# Altium footprint library PcbLib1.PcbLib: 41 footprints (part 2 of 3)
Each footprint in its own frame and in the unit in brackets; x right, y up, seen from the top. Pads: shape width x height; smd on the part's side, far side on the other; paste and mask are expansions set on the pad; w line width, h text height; cw(c..) or ccw(c..) is an arc to the next point about the centre after c.
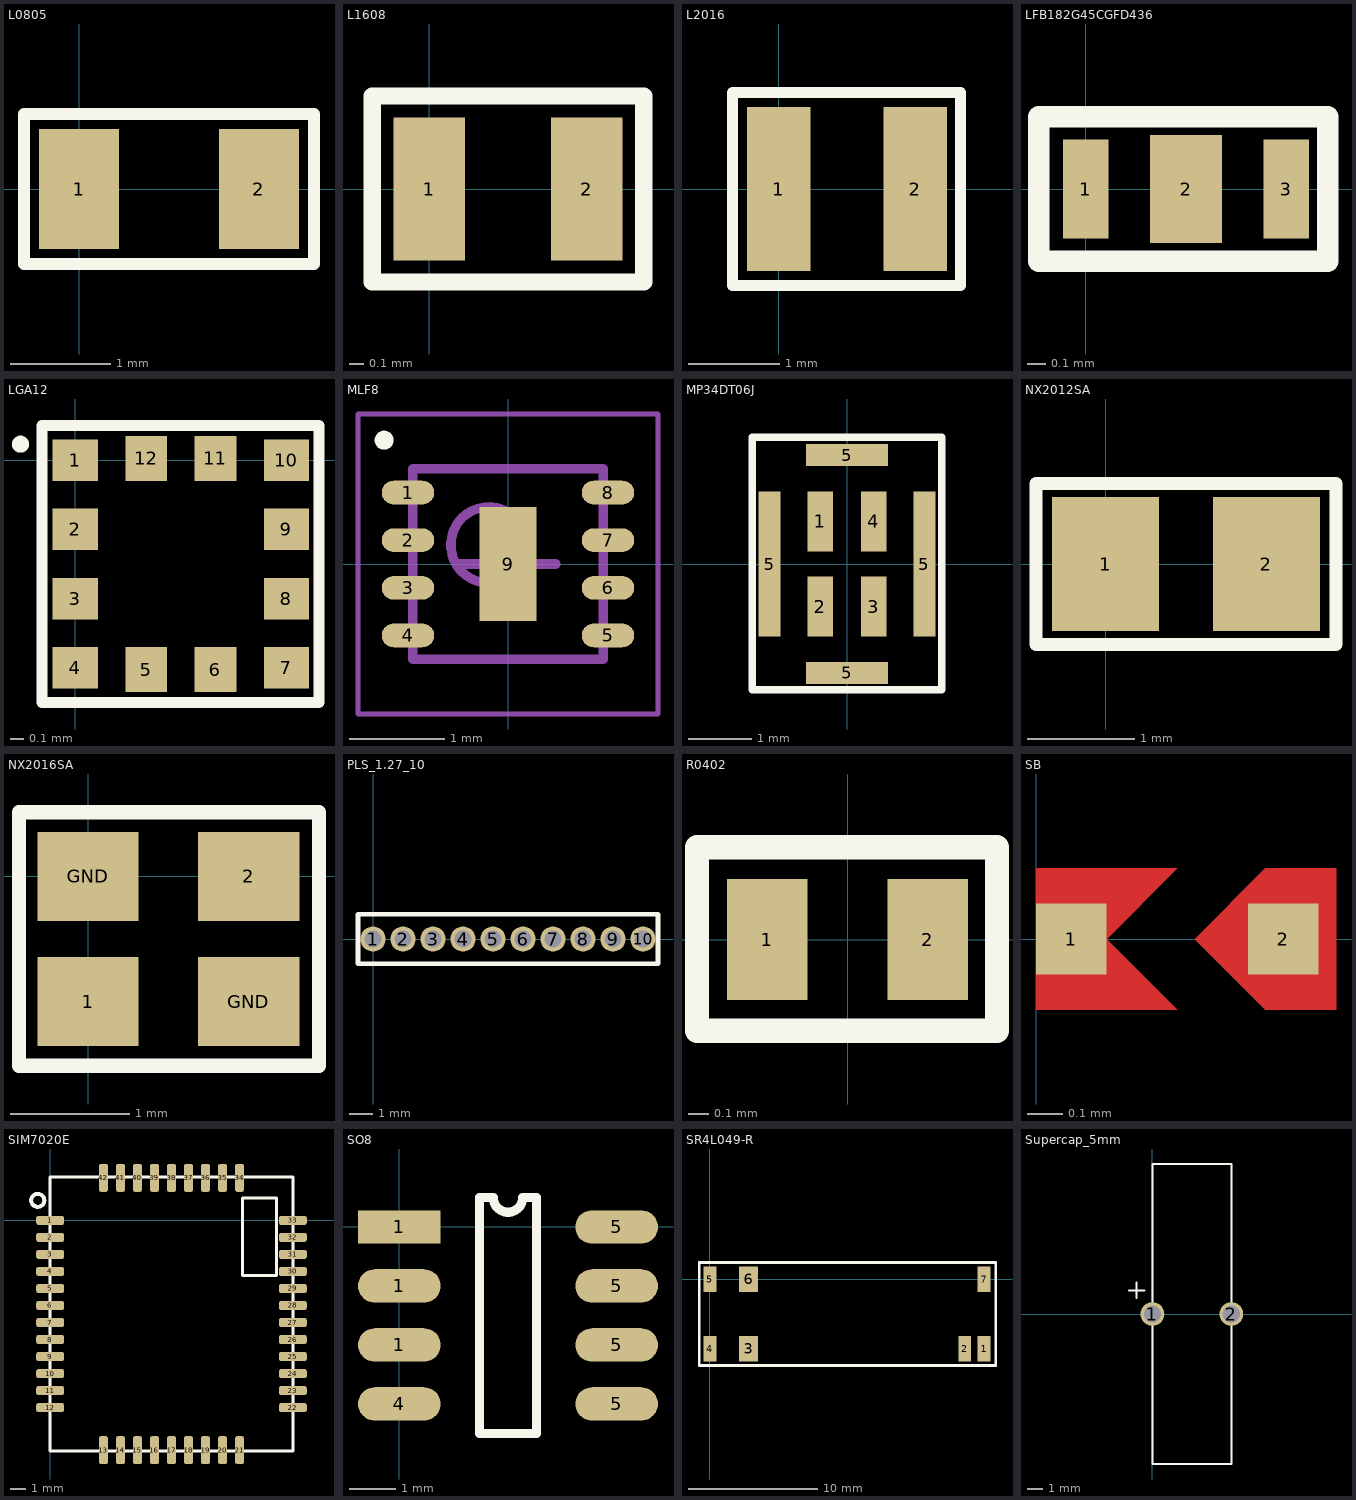
[diagram p1: the footprints below, top view; thin cyan lines are the x and y axes]

## L0805 [mm]
pads (2):
  rect 0.8x1.2 smd: 1(0,0) 2(1.8,0)
Top Overlay:
  lines w0.12: -0.55,-0.75 -0.55,0.75 2.35,0.75 2.35,-0.75 -0.55,-0.75

## L1608 [mm]
pads (2):
  rect 0.5x1 smd: 1(0,0) 2(1.1,0)
Top Overlay:
  lines w0.12: -0.4,-0.65 -0.4,0.65 1.5,0.65 1.5,-0.65 -0.4,-0.65

## L2016 [mm]
pads (2):
  rect 0.7x1.8 smd: 1(0,0) 2(1.5,0)
Top Overlay:
  lines w0.12: -0.51,-1.06 2,-1.06 2,1.06 -0.51,1.06 -0.51,-1.06

## LFB182G45CGFD436 [mm]
pads (3):
  rect 0.25x0.55 smd: 1(0,0) 3(1.11,0)
  rect 0.4x0.6 smd: 2(0.555,0)
Top Overlay:
  lines w0.12: -0.26,-0.4 -0.26,0.4 1.34,0.4 1.34,-0.4 -0.26,-0.4

## LGA12 [mm]
pads (12):
  rect 0.325x0.3 smd: 1(0,0) 2(0,-0.5) 3(0,-1) 4(0,-1.5) 7(1.525,-1.5) 8(1.525,-1) 9(1.525,-0.5) 10(1.525,0)
  rect 0.3x0.325 smd: 5(0.513,-1.512) 6(1.012,-1.512) 11(1.012,0.012) 12(0.513,0.012)
Top Overlay:
  circle w0.1: c-0.395,0.115 r0.011
  lines w0.08: -0.24,-1.75 -0.24,0.25 1.76,0.25 1.76,-1.75 -0.24,-1.75

## MLF8 [mm]
height 0.85
pads (9):
  oval 0.55x0.25 smd: 1(-1.05,0.75) 2(-1.05,0.25) 3(-1.05,-0.25) 4(-1.05,-0.75) 5(1.05,-0.75) 6(1.05,-0.25) 7(1.05,0.25) 8(1.05,0.75)
  rect 0.6x1.2 smd: 9(0,0)
Top Overlay:
  circle w0.1: c-1.3,1.3 r0.05
Mechanical 13:
  circle w0.1: c-0.2,0.2 r0.4
  lines w0.1: -1,-1 1,-1 1,1 -1,1 -1,-1
Mechanical 15:
  lines w0.05: -1.575,-1.575 1.575,-1.575 1.575,1.575 -1.575,1.575 -1.575,-1.575
  lines w0.1: -0.5,0 0.5,0 ; 0,-0.5 0,0.5
3D body: height 0.85, standoff 0.2, extent -1,-1 1,1

## MP34DT06J [mm]
pads (8):
  rect 0.4x0.95 smd: 1(-0.425,0.675) 2(-0.425,-0.675) 3(0.425,-0.675) 4(0.425,0.675)
  rect 0.35x2.3 smd: 5(-1.225,0) 5(1.225,0)
  rect 1.3x0.35 smd: 5(0,-1.725) 5(0,1.725)
Top Overlay:
  lines w0.12: -1.5,-1.99 -1.5,2.01 1.5,2.01 1.5,-1.99 -1.5,-1.99

## NX2012SA [mm]
pads (2):
  rect 1x1.25 smd: 1(0,0) 2(1.5,0)
Top Overlay:
  lines w0.12: -0.65,-0.75 -0.65,0.75 2.15,0.75 2.15,-0.75 -0.65,-0.75

## NX2016SA [mm]
pads (4):
  rect 0.85x0.75 smd: 1(0,-1.05) 2(1.35,0) GND(0,0) GND(1.35,-1.05)
Top Overlay:
  lines w0.12: -0.58,-1.59 -0.58,0.54 1.94,0.54 1.94,-1.59 -0.58,-1.59

## PLS_1.27_10 [mm]
pads (10):
  round 1.07 hole 0.7: 1(0,0) 2(1.27,0) 3(2.54,0) 4(3.81,0) 5(5.08,0) 6(6.35,0) 7(7.62,0) 8(8.89,0) 9(10.16,0) 10(11.43,0)
Top Overlay:
  lines w0.2: -0.635,-1.05 12.065,-1.05 12.065,1.05 -0.635,1.05 -0.635,-1.05

## R0402 [mm]
pads (2):
  rect 0.4x0.6 smd: 1(-0.4,0) 2(0.4,0)
Top Overlay:
  lines w0.12: -0.749,-0.454 -0.749,0.459 0.744,0.459 0.744,-0.454 -0.749,-0.454

## SB [mm]
pads (2):
  rect 0.2x0.2 smd: 1(0.1,0) 2(0.7,0)
Top Layer:
  region: 0.65,0.2 0.45,0 0.65,-0.2 0.85,-0.2 0.85,0.2
  pour cut-out: 0,0 0,0.2
  region: 0,0.2 0.4,0.2 0.2,0 0.4,-0.2 0,-0.2

## SIM7020E [mm]
pads (42):
  rrect50% 1.8x0.6 smd: 1(0,0) 2(0,-1.1) 3(0,-2.2) 4(0,-3.3) 5(0,-4.4) 6(0,-5.5) 7(0,-6.6) 8(0,-7.7) 9(0,-8.8) 10(0,-9.9) 11(0,-11) 12(0,-12.1) 22(15.7,-12.1) 23(15.7,-11) 24(15.7,-9.9) 25(15.7,-8.8) 26(15.7,-7.7) 27(15.7,-6.6) 28(15.7,-5.5) 29(15.7,-4.4) 30(15.7,-3.3) 31(15.7,-2.2) 32(15.7,-1.1) 33(15.7,0)
  rrect50% 0.6x1.8 smd: 13(3.45,-14.85) 14(4.55,-14.85) 15(5.65,-14.85) 16(6.75,-14.85) 17(7.85,-14.85) 18(8.95,-14.85) 19(10.05,-14.85) 20(11.15,-14.85) 21(12.25,-14.85) 34(12.25,2.75) 35(11.15,2.75) 36(10.05,2.75) 37(8.95,2.75) 38(7.85,2.75) 39(6.75,2.75) 40(5.65,2.75) 41(4.55,2.75) 42(3.45,2.75)
Top Overlay:
  circle w0.254: c-0.8,1.3 r0.424
  lines w0.2: 0,-14.9 0,0 0,2.8 15.7,2.8 15.7,-14.9 0,-14.9 ; 12.45,-3.56 12.45,1.44 14.65,1.44 14.65,-3.56 12.45,-3.56

## SO8 [mm]
pads (8):
  oval 1.78x0.72 smd: 1(0,-2.54) 1(0,-1.27) 4(0,-3.81) 5(4.68,-3.81) 5(4.68,-2.54) 5(4.68,-1.27) 5(4.68,0)
  rect 1.78x0.72 smd: 1(0,0)
Top Overlay:
  lines w0.2: 1.725,-4.445 1.725,0.635 2.023,0.635 ccw(c2.34,0.635) 2.658,0.635 2.955,0.635 2.955,-4.445 1.725,-4.445

## SR4L049-R [mm]
pads (7):
  rect 1x2 smd: 1(21.3,-5.4) 2(19.8,-5.4) 4(0,-5.4) 5(0,0) 7(21.3,0)
  rect 1.5x2 smd: 3(3,-5.4) 6(3,0)
Top Overlay:
  lines w0.2: -0.809,-6.701 -0.809,1.299 22.191,1.299 22.191,-6.701 -0.809,-6.701

## Supercap_5mm [mm]
pads (2):
  round 1.5 hole 1.1: 1(0,0) 2(5,0)
Top Overlay:
  lines w0.12: -1.5,1.5 -0.5,1.5 -1,1.5 -1,1 -1,2 ; 0,-9.5 0,0 0,9.5 5,9.5 5,-9.5 0,-9.5